# Altium schematic symbol library RFComponents.SchLib: 8 symbols
Pins are listed as number, name and electrical type; pins without a type are passive.

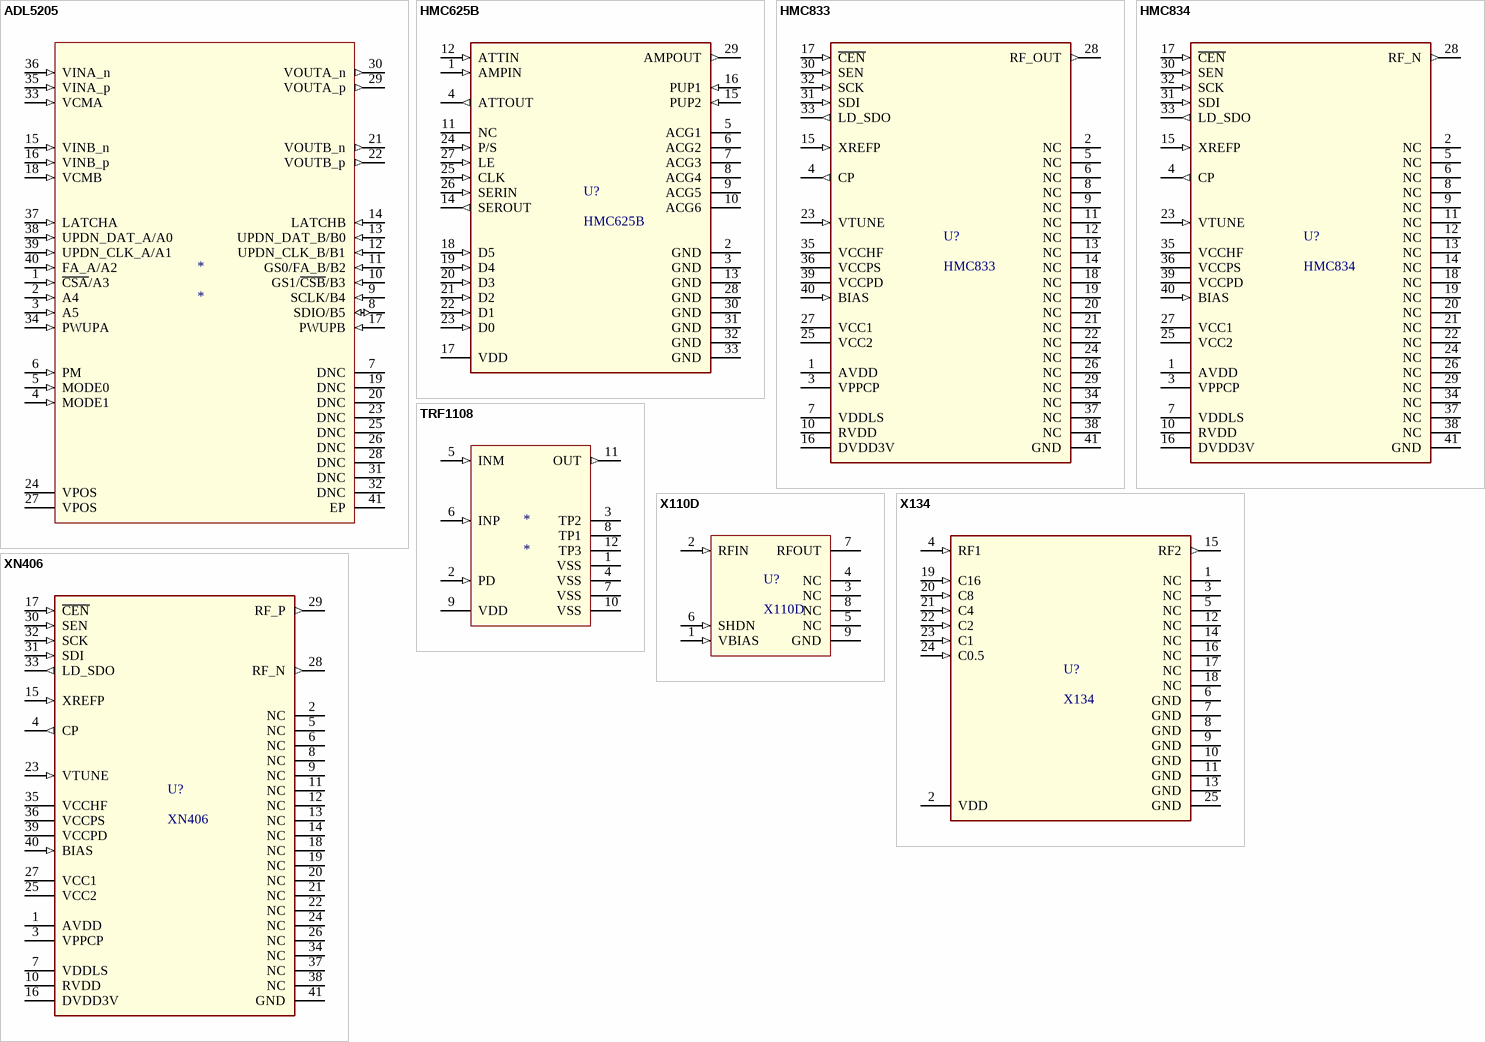
[diagram p0: symbols ADL5205 to XN406]

## ADL5205
designator *
footprint QFN-40 (LFCSP-40) (QFN, 40-Leads, Body 6.00x6.00mm, Pitch 0.50mm, Thermal Pad 2.90x2.90mm, IPC Medium Density)
pins: 1 ~{CSA}/A3 (in), 2 A4 (in), 3 A5 (in), 4 MODE1 (in), 5 MODE0 (in), 6 PM (in), 7 DNC, 8 SDIO/B5 (io), 9 SCLK/B4 (in), 10 GS1/~{CSB}/B3 (in), 11 GS0/FA_B/B2 (in), 12 UPDN_CLK_B/B1 (in), 13 UPDN_DAT_B/B0 (in), 14 LATCHB (in), 15 VINB_n (in), 16 VINB_p (in), 17 PWUPB (in), 18 VCMB (in), 19 DNC, 20 DNC, 21 VOUTB_n (out), 22 VOUTB_p (out), 23 DNC, 24 VPOS (power), 25 DNC, 26 DNC, 27 VPOS (power), 28 DNC, 29 VOUTA_p (out), 30 VOUTA_n (out), 31 DNC, 32 DNC, 33 VCMA (in), 34 PWUPA (in), 35 VINA_p (in), 36 VINA_n (in), 37 LATCHA (in), 38 UPDN_DAT_A/A0 (in), 39 UPDN_CLK_A/A1 (in), 40 FA_A/A2 (in), 41 EP (power)

## HMC625B
designator U?
0.5 dB LSB GaAs MMIC 6-BIT DIGITAL VARIABLE GAIN AMPLIFIER, DC - 5 GHz.
footprint QFN32
pins: 1 AMPIN (in) "This pin is DC coupled. An off chip DC blocking capacitor is required.", 2 GND (power) "Ground.", 3 GND (power) "Ground.", 4 ATTOUT (out) "These pins are DC coupled and matched to 50 Ohms. Blocking capacitors are required. Select value based on lowest frequency of operation.", 5 ACG1 (power) "External capacitors to ground is required. Select value for lowest. frequency of operation. Place capacitor as close to pins as possible.", 6 ACG2 (power) "External capacitors to ground is required. Select value for lowest. frequency of operation. Place capacitor as close to pins as possible.", 7 ACG3 (power) "External capacitors to ground is required. Select value for lowest. frequency of operation. Place capacitor as close to pins as possible.", 8 ACG4 (power) "External capacitors to ground is required. Select value for lowest. frequency of operation. Place capacitor as close to pins as possible.", 9 ACG5 (power) "External capacitors to ground is required. Select value for lowest. frequency of operation. Place capacitor as close to pins as possible.", 10 ACG6 (power) "External capacitors to ground is required. Select value for lowest. frequency of operation. Place capacitor as close to pins as possible.", 11 NC "Not connect.", 12 ATTIN (in) "These pins are DC coupled and matched to 50 Ohms. Blocking capacitors are required. Select value based on lowest frequency of operation.", 13 GND (power) "Ground.", 14 SEROUT (out) "Serial input data delayed by 6 clock cycles.", 15 PUP2 (in), 16 PUP1 (in), 17 VDD (power) "Supply Voltage.", 18 D5 (in), 19 D4 (in), 20 D3 (in), 21 D2 (in), 22 D1 (in), 23 D0 (in), 24 P/S (in), 25 CLK (in), 26 SERIN (in), 27 LE (in), 28 GND (power) "Ground.", 29 AMPOUT (out) "RF output and DC bias (Vcc) for the output stage of the amplifier.", 30 GND (power) "Ground.", 31 GND (power) "Ground.", 32 GND (power) "Ground.", 33 GND (power) "Ground."

## HMC833
designator U?
FRACTIONAL-N PLL WITH INTEGRATED VCO 25 - 6000 MHz.
footprint QFN40L
pins: 1 AVDD (power) "DC power supply of analog circuit.", 2 NC "Not connect.", 3 VPPCP (power) "Power Supply for charge pump analog section.", 4 CP (out) "Charge Pump Output.", 5 NC "Not connect.", 6 NC "Not connect.", 7 VDDLS "Power Supply for the charge pump digital.", 8 NC "Not connect.", 9 NC "Not connect.", 10 RVDD (power) "Reference supply.", 11 NC "Not connect.", 12 NC "Not connect.", 13 NC "Not connect.", 14 NC "Not connect.", 15 XREFP (in) "Reference input.", 16 DVDD3V (power) "DC Power Supply for Digital (CMOS) Circuitry (connecting 51Ω resistance to 3.3V power supply during application)", 17 ~{CEN} (in) "Chip enable (normal operation at high level).", 18 NC "Not connect.", 19 NC "Not connect.", 20 NC "Not connect.", 21 NC "Not connect.", 22 NC "Not connect.", 23 VTUNE (in) "VCO Varactor. Tuning Port Input.", 24 NC "Not connect.", 25 VCC2 (power) "VCO analog supply 2.", 26 NC "Not connect.", 27 VCC1 (power) "VCO analog supply 1.", 28 RF_OUT (out) "RF output.", 29 NC "Not connect.", 30 SEN (in) "PLL Serial Port Enable (CMOS) Logic Input.", 31 SDI (in) "PLL Serial Port Data (CMOS) Logic Input.", 32 SCK (in) "PLL Serial Port Clock (CMOS) Logic Input.", 33 LD_SDO (out) "Lock Detect, or Serial Data, or General Purpose (CMOS) Logic Output (GPO).", 34 NC "Not connect.", 35 VCCHF (power) "DC Power Supply for Analog Circuitry.", 36 VCCPS (power) "DC Power Supply for Analog Prescaler.", 37 NC "Not connect.", 38 NC "Not connect.", 39 VCCPD (power) "DC Power Supply for Phase Detector.", 40 BIAS (in) "External bypass decoupling for precision bias circuits.", 41 GND (power) "Exposed pad."

## HMC834
designator U?
Fractional-N PLL with Integrated VCO 45 - 1050, 1400 - 2100, 2800 - 4200, 5600 - 8400 MHz.
footprint QFN40L
pins: 1 AVDD (power) "DC power supply of analog circuit.", 2 NC "Not connect.", 3 VPPCP (power) "Power Supply for charge pump analog section.", 4 CP (out) "Charge Pump Output.", 5 NC "Not connect.", 6 NC "Not connect.", 7 VDDLS "Power Supply for the charge pump digital.", 8 NC "Not connect.", 9 NC "Not connect.", 10 RVDD (power) "Reference supply.", 11 NC "Not connect.", 12 NC "Not connect.", 13 NC "Not connect.", 14 NC "Not connect.", 15 XREFP (in) "Reference input.", 16 DVDD3V (power) "DC Power Supply for Digital (CMOS) Circuitry (connecting 51Ω resistance to 3.3V power supply during application)", 17 ~{CEN} (in) "Chip enable (normal operation at high level).", 18 NC "Not connect.", 19 NC "Not connect.", 20 NC "Not connect.", 21 NC "Not connect.", 22 NC "Not connect.", 23 VTUNE (in) "VCO Varactor. Tuning Port Input.", 24 NC "Not connect.", 25 VCC2 (power) "VCO analog supply 2.", 26 NC "Not connect.", 27 VCC1 (power) "VCO analog supply 1.", 28 RF_N (out) "RF Negative Output (On in differential and single-ended configuration).", 29 NC "Not connect.", 30 SEN (in) "PLL Serial Port Enable (CMOS) Logic Input.", 31 SDI (in) "PLL Serial Port Data (CMOS) Logic Input.", 32 SCK (in) "PLL Serial Port Clock (CMOS) Logic Input.", 33 LD_SDO (out) "Lock Detect, or Serial Data, or General Purpose (CMOS) Logic Output (GPO).", 34 NC "Not connect.", 35 VCCHF (power) "DC Power Supply for Analog Circuitry.", 36 VCCPS (power) "DC Power Supply for Analog Prescaler.", 37 NC "Not connect.", 38 NC "Not connect.", 39 VCCPD (power) "DC Power Supply for Phase Detector.", 40 BIAS (in) "External bypass decoupling for precision bias circuits.", 41 GND (power) "Exposed pad."

## TRF1108
designator *
footprint WQFN_FCRLF 4x2 (PQFN, 12-Leads, Body 2.00x2.00mm, Pitch 0.50mm, Thermal Pad 0.75x0.75mm, IPC Medium Density)
pins: 1 VSS (power) "Negative supply pin", 2 PD (in) "Power-down signal. Supports 1.8V and 3.3V logic referenced to VSS. 0 = Chip enabled. 1 = Power down.", 3 TP2 "Test pin. Connect to VSS", 4 VSS (power) "Negative supply pin", 5 INM (in) "Differential signal input, negative", 6 INP (in) "Differential signal input, positive", 7 VSS (power) "Negative supply pin", 8 TP1 "Test pin. Connect to VSS", 9 VDD (power) "Positive supply pin", 10 VSS (power) "Negative supply pin", 11 OUT (out) "Single ended output", 12 TP3 "Test pin. Connect to VSS"

## X110D
designator U?
footprint DFN8L (DFN, 8-Leads, Body 2.00x2.00mm, Pitch 0.50mm, Thermal Pad 1.60x0.80mm, IPC Medium Density)
pins: 1 VBIAS (in) "Bias current control", 2 RFIN (in) "RF input externally connected to a blocking capacitor.", 3 NC "No connection, PCB grounded.", 4 NC "No connection, PCB grounded.", 5 NC "No connection, PCB grounded.", 6 SHDN (in) "OFF control to operate at low level and turn off at high level.", 7 RFOUT (power) "RF output externally connected to a blocking capacitor.", 8 NC "No connection, PCB grounded.", 9 GND (power) "Exposed pad."

## X134
designator U?
9KHz~4GHz 6-bit Digital Attenuator.
footprint QFN24 (QFN, 24-Leads, Body 4.00x4.00mm, Pitch 0.50mm, Thermal Pad 2.75x2.75mm, IPC Medium Density)
pins: 1 NC "Not connect.", 2 VDD (power) "Power supply.", 3 NC "Not connect.", 4 RF1 (in) "RF input.", 5 NC "Not connect.", 6 GND (power) "Ground.", 7 GND (power) "Ground.", 8 GND (power) "Ground.", 9 GND (power) "Ground.", 10 GND (power) "Ground.", 11 GND (power) "Ground.", 12 NC "Not connect.", 13 GND (power) "Ground.", 14 NC "Not connect.", 15 RF2 (out) "RF output.", 16 NC "Not connect.", 17 NC "Not connect.", 18 NC "Not connect.", 19 C16 (in) "Parallel port control, 16dB.", 20 C8 (in) "Parallel port control, 8dB.", 21 C4 (in) "Parallel port control, 4dB.", 22 C2 (in) "Parallel port control, 2dB.", 23 C1 (in) "Parallel port control, 1dB.", 24 C0.5 (in) "Parallel port control, 0.5dB.", 25 GND (power) "Ground."

## XN406
designator U?
Fractional-N Frequency Synthesizer with Integrated VCO 25MHz-3GHz.
footprint QFN40L
pins: 1 AVDD (power) "DC power supply of analog circuit.", 2 NC "Not connect.", 3 VPPCP (power) "Power Supply for charge pump analog section.", 4 CP (out) "Charge Pump Output.", 5 NC "Not connect.", 6 NC "Not connect.", 7 VDDLS "Power Supply for the charge pump digital.", 8 NC "Not connect.", 9 NC "Not connect.", 10 RVDD (power) "Reference supply.", 11 NC "Not connect.", 12 NC "Not connect.", 13 NC "Not connect.", 14 NC "Not connect.", 15 XREFP (in) "Reference input.", 16 DVDD3V (power) "DC Power Supply for Digital (CMOS) Circuitry (connecting 51Ω resistance to 3.3V power supply during application)", 17 ~{CEN} (in) "Chip enable (normal operation at high level).", 18 NC "Not connect.", 19 NC "Not connect.", 20 NC "Not connect.", 21 NC "Not connect.", 22 NC "Not connect.", 23 VTUNE (in) "VCO Varactor. Tuning Port Input.", 24 NC "Not connect.", 25 VCC2 (power) "VCO analog supply 2.", 26 NC "Not connect.", 27 VCC1 (power) "VCO analog supply 1.", 28 RF_N (out) "RF negative output.", 29 RF_P (out) "RF positive output.", 30 SEN (in) "PLL Serial Port Enable (CMOS) Logic Input.", 31 SDI (in) "PLL Serial Port Data (CMOS) Logic Input.", 32 SCK (in) "PLL Serial Port Clock (CMOS) Logic Input.", 33 LD_SDO (out) "Lock Detect, or Serial Data, or General Purpose (CMOS) Logic Output (GPO).", 34 NC "Not connect.", 35 VCCHF (power) "DC Power Supply for Analog Circuitry.", 36 VCCPS (power) "DC Power Supply for Analog Prescaler.", 37 NC "Not connect.", 38 NC "Not connect.", 39 VCCPD (power) "DC Power Supply for Phase Detector.", 40 BIAS (in) "External bypass decoupling for precision bias circuits.", 41 GND (power) "Exposed pad."